# Altium footprint library 封装库.PCBLIB: 282 footprints (part 5 of 18)
Each footprint in its own frame and in the unit in brackets; x right, y up, seen from the top. Pads: shape width x height; smd on the part's side, far side on the other; paste and mask are expansions set on the pad; w line width, h text height; cw(c..) or ccw(c..) is an arc to the next point about the centre after c.
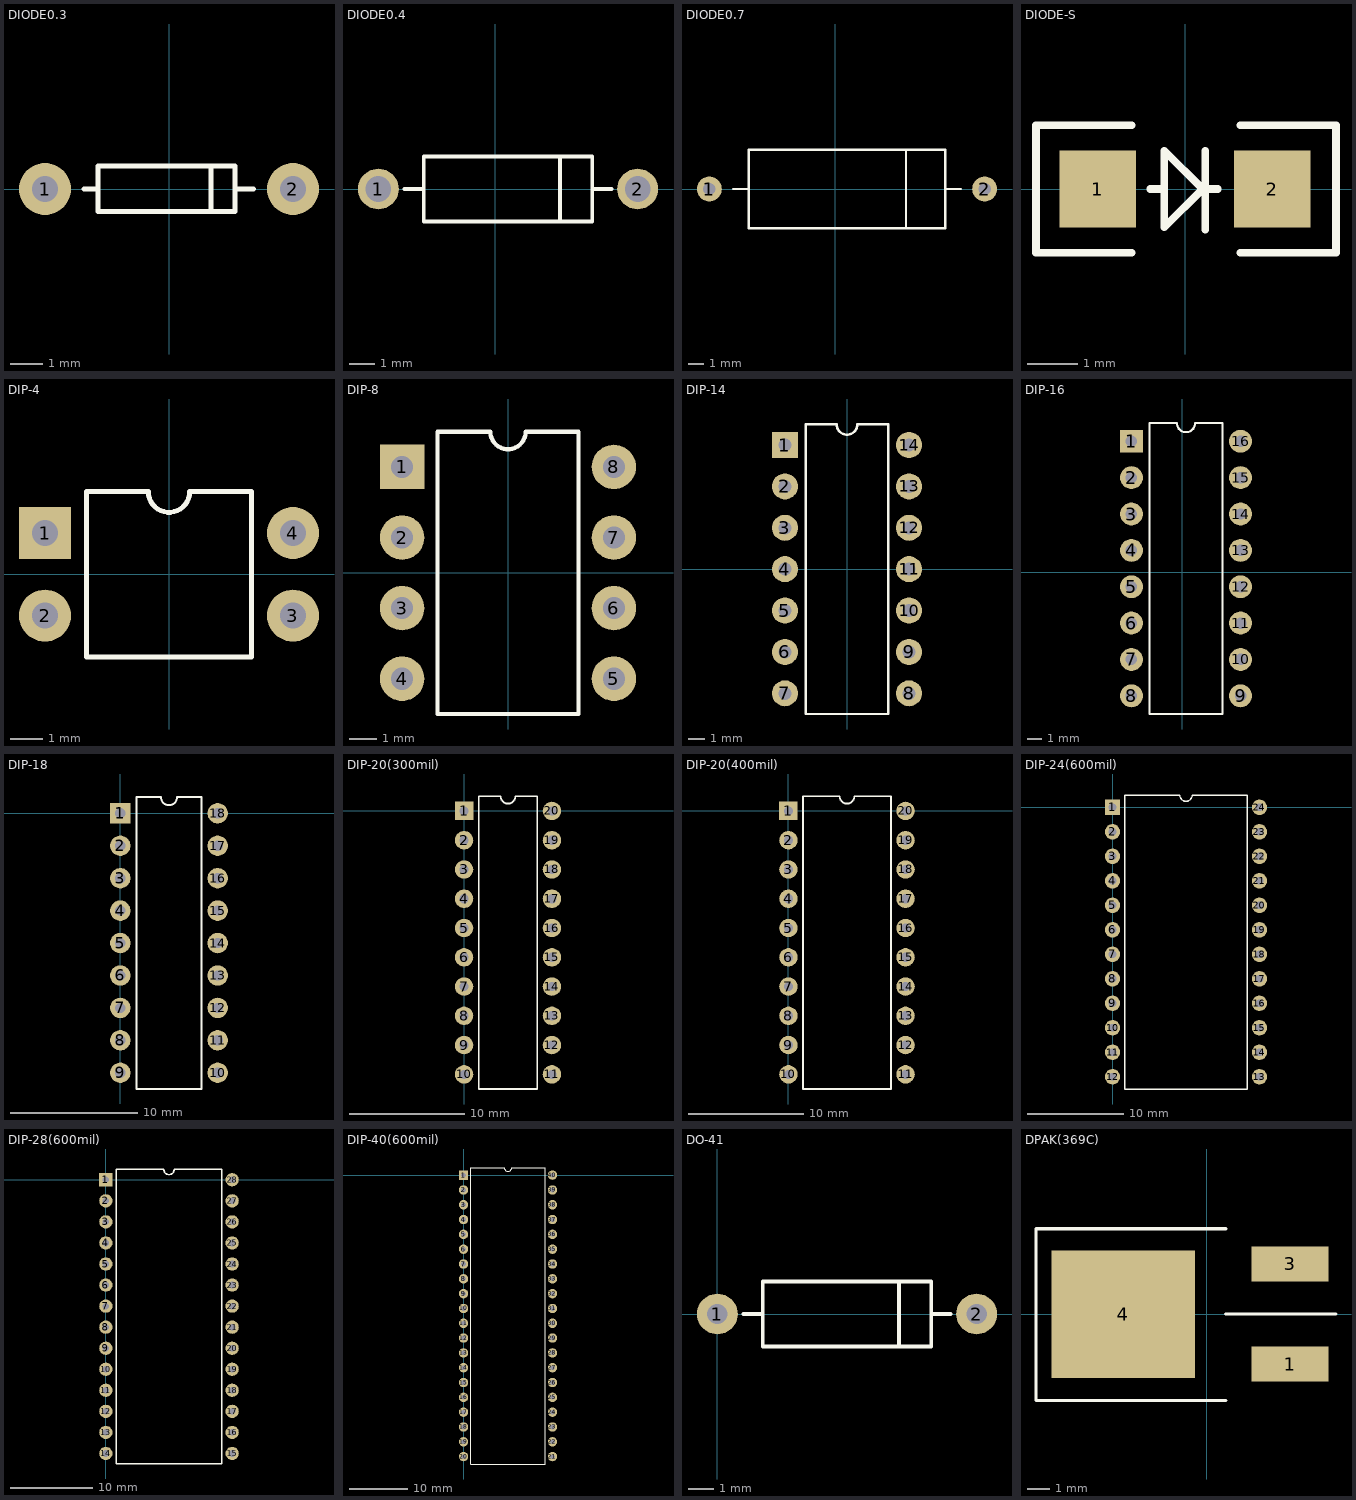
[diagram p4: the footprints below, top view; thin cyan lines are the x and y axes]

## DIODE0.3 [mm]
pads (2):
  round 1.6 hole 0.8: 1(-3.81,0) 2(3.81,0)
TopOverlay:
  lines w0.152: -2.616,0 -2.184,0 ; 1.295,-0.686 1.295,0.711 ; 2.032,0 2.591,0 ; -2.184,-0.686 -2.184,0.711 2.032,0.711 2.032,-0.686 -2.184,-0.686

## DIODE0.4 [mm]
pads (2):
  round 1.6 hole 1: 1(-4.572,0) 2(5.588,0)
TopOverlay:
  lines w0.152: -3.556,0 -2.794,0 ; 2.54,-1.27 2.54,1.27 ; 3.81,0 4.572,0 ; -2.794,-1.27 3.81,-1.27 3.81,1.27 -2.794,1.27 -2.794,-1.27

## DIODE0.7 [mm]
pads (2):
  round 1.6 hole 0.8: 1(-8.128,0) 2(9.652,0)
TopOverlay:
  lines w0.152: -6.604,0 -5.588,0 ; 4.572,-2.54 4.572,2.54 ; 7.112,0 8.128,0 ; -5.588,-2.54 7.112,-2.54 7.112,2.54 -5.588,2.54 -5.588,-2.54

## DIODE-S [mil]
pads (2):
  rect 60x60 smd: 1(-68.25,0) 2(68.25,0)
TopOverlay:
  lines w6: -41.75,-50 -116.75,-50 -116.75,50 -41.75,50 ; -27.25,0 -16.26,0 ; 14.75,0 25.75,0 ; 15.74,-32.01 15.74,29.99 ; 43.25,-50 118.25,-50 118.25,50 43.25,50 ; -16.26,-30.01 13.74,-0.01 -16.26,29.99 -16.26,-30.01

## DIP-4 [mm]
pads (4):
  rect 1.6x1.6 hole 0.8: 1(-3.81,1.27)
  round 1.6 hole 0.8: 2(-3.81,-1.27) 3(3.81,-1.27) 4(3.81,1.27)
TopOverlay:
  lines w0.152: -2.54,-2.54 -2.54,2.54 -0.635,2.54 ccw(c0,2.54) 0.635,2.54 2.54,2.54 2.54,-2.54 -2.54,-2.54

## DIP-8 [mm]
pads (8):
  rect 1.6x1.6 hole 0.8: 1(-3.81,3.81)
  round 1.6 hole 0.8: 2(-3.81,1.27) 3(-3.81,-1.27) 4(-3.81,-3.81) 5(3.81,-3.81) 6(3.81,-1.27) 7(3.81,1.27) 8(3.81,3.81)
TopOverlay:
  lines w0.152: -2.54,-5.08 -2.54,5.08 -0.635,5.08 ccw(c0,5.08) 0.635,5.08 2.54,5.08 2.54,-5.08 -2.54,-5.08

## DIP-14 [mm]
pads (14):
  rect 1.6x1.6 hole 0.8: 1(-3.81,7.62)
  round 1.6 hole 0.8: 2(-3.81,5.08) 3(-3.81,2.54) 4(-3.81,0) 5(-3.81,-2.54) 6(-3.81,-5.08) 7(-3.81,-7.62) 8(3.81,-7.62) 9(3.81,-5.08) 10(3.81,-2.54) 11(3.81,0) 12(3.81,2.54) 13(3.81,5.08) 14(3.81,7.62)
TopOverlay:
  lines w0.152: -2.54,-8.89 2.54,-8.89 2.54,8.89 0.635,8.89 cw(c0,8.89) -0.635,8.89 -2.54,8.89 -2.54,-8.89

## DIP-16 [mm]
pads (16):
  rect 1.6x1.6 hole 0.8: 1(-3.556,9.144)
  round 1.6 hole 0.8: 2(-3.556,6.604) 3(-3.556,4.064) 4(-3.556,1.524) 5(-3.556,-1.016) 6(-3.556,-3.556) 7(-3.556,-6.096) 8(-3.556,-8.636) 9(4.064,-8.636) 10(4.064,-6.096) 11(4.064,-3.556) 12(4.064,-1.016) 13(4.064,1.524) 14(4.064,4.064) 15(4.064,6.604) 16(4.064,9.144)
TopOverlay:
  lines w0.152: -2.286,-9.906 -2.286,10.414 -0.381,10.414 ccw(c0.254,10.414) 0.889,10.414 2.794,10.414 2.794,-9.906 -2.286,-9.906

## DIP-18 [mm]
pads (18):
  rect 1.6x1.6 hole 0.8: 1(0,0)
  round 1.6 hole 0.8: 2(0,-2.54) 3(0,-5.08) 4(0,-7.62) 5(0,-10.16) 6(0,-12.7) 7(0,-15.24) 8(0,-17.78) 9(0,-20.32) 10(7.62,-20.32) 11(7.62,-17.78) 12(7.62,-15.24) 13(7.62,-12.7) 14(7.62,-10.16) 15(7.62,-7.62) 16(7.62,-5.08) 17(7.62,-2.54) 18(7.62,0)
TopOverlay:
  lines w0.152: 1.27,-21.59 6.35,-21.59 6.35,1.27 4.445,1.27 cw(c3.81,1.27) 3.175,1.27 1.27,1.27 1.27,-21.59

## DIP-20(300mil) [mm]
pads (20):
  rect 1.6x1.6 hole 0.8: 1(0,0)
  round 1.6 hole 0.8: 2(0,-2.54) 3(0,-5.08) 4(0,-7.62) 5(0,-10.16) 6(0,-12.7) 7(0,-15.24) 8(0,-17.78) 9(0,-20.32) 10(0,-22.86) 11(7.62,-22.86) 12(7.62,-20.32) 13(7.62,-17.78) 14(7.62,-15.24) 15(7.62,-12.7) 16(7.62,-10.16) 17(7.62,-7.62) 18(7.62,-5.08) 19(7.62,-2.54) 20(7.62,0)
TopOverlay:
  lines w0.152: 1.27,-24.13 1.27,1.27 3.175,1.27 ccw(c3.81,1.27) 4.445,1.27 6.35,1.27 6.35,-24.13 1.27,-24.13

## DIP-20(400mil) [mm]
pads (20):
  rect 1.6x1.6 hole 0.8: 1(0,0)
  round 1.6 hole 0.8: 2(0,-2.54) 3(0,-5.08) 4(0,-7.62) 5(0,-10.16) 6(0,-12.7) 7(0,-15.24) 8(0,-17.78) 9(0,-20.32) 10(0,-22.86) 11(10.16,-22.86) 12(10.16,-20.32) 13(10.16,-17.78) 14(10.16,-15.24) 15(10.16,-12.7) 16(10.16,-10.16) 17(10.16,-7.62) 18(10.16,-5.08) 19(10.16,-2.54) 20(10.16,0)
TopOverlay:
  lines w0.152: 1.27,-2.794 1.27,-2.286 ; 1.27,-2.54 1.27,0.737 1.27,1.27 3.632,1.27 ; 1.27,-1.575 1.27,-23.089 1.27,-24.13 7.62,-24.13 ; 3.429,1.27 4.445,1.27 ccw(c5.08,1.27) 5.715,1.27 8.89,1.27 ; 7.315,-24.13 8.89,-24.13 8.89,-21.209 ; 7.595,1.27 8.89,1.27 ; 8.89,-21.717 8.89,0.178 8.89,-2.616 ; 8.89,-0.178 8.89,1.27 ; 9.906,0 10.414,0

## DIP-24(600mil) [mm]
pads (24):
  rect 1.6x1.6 hole 0.8: 1(0,0)
  round 1.6 hole 0.8: 2(0,-2.54) 3(0,-5.08) 4(0,-7.62) 5(0,-10.16) 6(0,-12.7) 7(0,-15.24) 8(0,-17.78) 9(0,-20.32) 10(0,-22.86) 11(0,-25.4) 12(0,-27.94) 13(15.24,-27.94) 14(15.24,-25.4) 15(15.24,-22.86) 16(15.24,-20.32) 17(15.24,-17.78) 18(15.24,-15.24) 19(15.24,-12.7) 20(15.24,-10.16) 21(15.24,-7.62) 22(15.24,-5.08) 23(15.24,-2.54) 24(15.24,0)
TopOverlay:
  lines w0.152: 1.27,-29.21 1.27,1.27 6.985,1.27 ccw(c7.62,1.27) 8.255,1.27 13.97,1.27 13.97,-29.21 1.27,-29.21

## DIP-28(600mil) [mm]
pads (28):
  rect 1.6x1.6 hole 0.8: 1(0,0)
  round 1.6 hole 0.8: 2(0,-2.54) 3(0,-5.08) 4(0,-7.62) 5(0,-10.16) 6(0,-12.7) 7(0,-15.24) 8(0,-17.78) 9(0,-20.32) 10(0,-22.86) 11(0,-25.4) 12(0,-27.94) 13(0,-30.48) 14(0,-33.02) 15(15.24,-33.02) 16(15.24,-30.48) 17(15.24,-27.94) 18(15.24,-25.4) 19(15.24,-22.86) 20(15.24,-20.32) 21(15.24,-17.78) 22(15.24,-15.24) 23(15.24,-12.7) 24(15.24,-10.16) 25(15.24,-7.62) 26(15.24,-5.08) 27(15.24,-2.54) 28(15.24,0)
TopOverlay:
  lines w0.152: 1.27,-34.29 13.97,-34.29 13.97,1.27 8.255,1.27 cw(c7.62,1.27) 6.985,1.27 1.27,1.27 1.27,-34.29

## DIP-40(600mil) [mm]
pads (40):
  rect 1.6x1.6 hole 0.8: 1(0,0)
  round 1.6 hole 0.8: 2(0,-2.54) 3(0,-5.08) 4(0,-7.62) 5(0,-10.16) 6(0,-12.7) 7(0,-15.24) 8(0,-17.78) 9(0,-20.32) 10(0,-22.86) 11(0,-25.4) 12(0,-27.94) 13(0,-30.48) 14(0,-33.02) 15(0,-35.56) 16(0,-38.1) 17(0,-40.64) 18(0,-43.18) 19(0,-45.72) 20(0,-48.26) 21(15.24,-48.26) 22(15.24,-45.72) 23(15.24,-43.18) 24(15.24,-40.64) 25(15.24,-38.1) 26(15.24,-35.56) 27(15.24,-33.02) 28(15.24,-30.48) 29(15.24,-27.94) 30(15.24,-25.4) 31(15.24,-22.86) 32(15.24,-20.32) 33(15.24,-17.78) 34(15.24,-15.24) 35(15.24,-12.7) 36(15.24,-10.16) 37(15.24,-7.62) 38(15.24,-5.08) 39(15.24,-2.54) 40(15.24,0)
TopOverlay:
  lines w0.152: 1.27,-49.53 13.97,-49.53 13.97,1.27 8.255,1.27 cw(c7.62,1.27) 6.985,1.27 1.27,1.27 1.27,-49.53

## DO-41 [mm]
pads (2):
  round 1.6 hole 0.8: 1(0,0) 2(10.16,0)
TopOverlay:
  lines w0.152: 1.016,0 1.778,0 ; 7.112,-1.27 7.112,1.27 ; 8.382,0 9.144,0 ; 1.778,-1.27 8.382,-1.27 8.382,1.27 1.778,1.27 1.778,-1.27

## DPAK(369C) [mm]
pads (3):
  rect 3.5x1.6 smd: 1(3.785,-2.273) 3(3.785,2.273)
  rect 6.5x5.8 smd: 4(-3.785,-0.013)
TopOverlay:
  lines w0.152: -7.747,-3.238 -7.747,3.467 ; -7.747,-3.032 -7.747,-3.924 ; -6.35,3.873 0.356,3.873 0.864,3.873 ; -5.791,-3.924 0.356,-3.924 0.864,-3.924 ; -5.775,3.873 -7.747,3.873 -7.747,-3.924 ; -4.877,-3.924 -7.747,-3.924 ; 0.864,0 5.867,0